# EAGLE library part 338070-16 (library con-te-micro-match)
RECEPTACAL
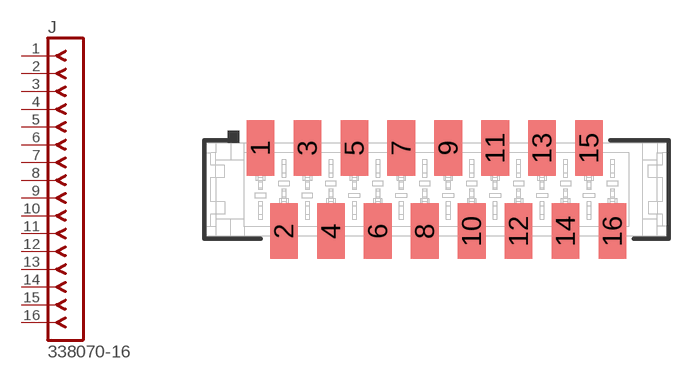
[diagram p5: symbol with the pads of 338070-16; footprint 338070-16]

Designator prefix J

## 338070-16  [338070-16]
1  1  pas
2  2  pas
3  3  pas
4  4  pas
5  5  pas
6  6  pas
7  7  pas
8  8  pas
9  9  pas
10  10  pas
11  11  pas
12  12  pas
13  13  pas
14  14  pas
15  15  pas
16  16  pas

## Footprint 338070-16 (pad centres in mm)
RECEPTACAL
smd 1.5 x 3: 1 -9.525,2.25; 2 -8.255,-2.25; 3 -6.985,2.25; 4 -5.715,-2.25; 5 -4.445,2.25; 6 -3.175,-2.25; 7 -1.905,2.25; 8 -0.635,-2.25; 9 0.635,2.25; 10 1.905,-2.25; 11 3.175,2.25; 12 4.445,-2.25; 13 5.715,2.25; 14 6.985,-2.25; 15 8.255,2.25; 16 9.525,-2.25